# Altium footprint library LCD.PcbLib: 1 footprints
Each footprint in its own frame and in the unit in brackets; x right, y up, seen from the top. Pads: shape width x height; smd on the part's side, far side on the other; paste and mask are expansions set on the pad; w line width, h text height; cw(c..) or ccw(c..) is an arc to the next point about the centre after c.
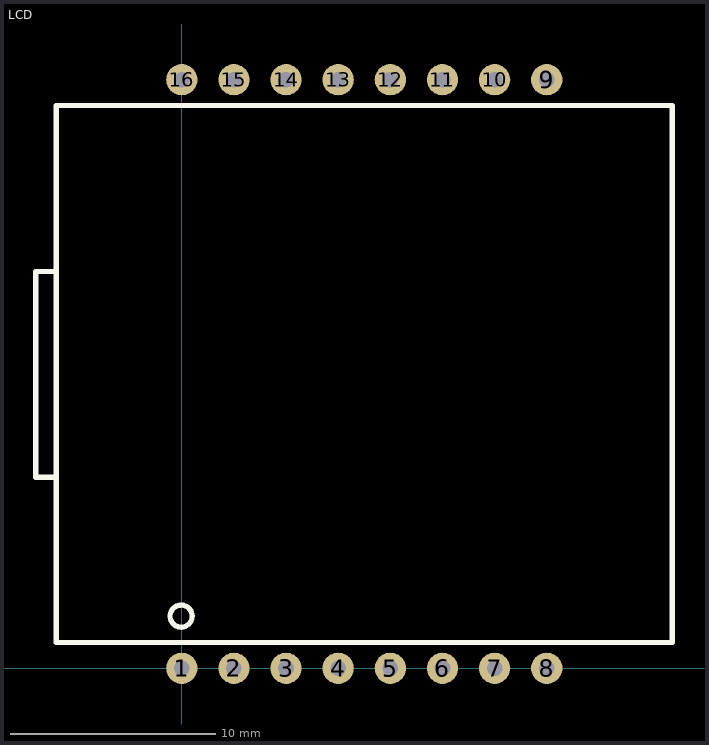
[diagram p0: the footprint, top view; thin cyan lines are the x and y axes]

## LCD [mil] "16 pin through hole LCD"
pads (16):
  round 60 hole 30: 1(0,0) 2(100,0) 3(200,0) 4(300,0) 5(400,0) 6(500,0) 7(600,0) 8(700,0) 9(700,1128.74) 10(600,1128.74) 11(500,1128.74) 12(400,1128.74) 13(300,1128.74) 14(200,1128.74) 15(100,1128.74) 16(0,1128.74)
Top Overlay:
  circle w10: c-1.21,100 r21.21
  lines w10: -279.92,366.22 -240.55,366.22 ; -279.92,367.52 -279.92,761.22 -240.55,761.22 ; -240.55,49.21 -240.55,1079.53 940.55,1079.53 940.55,49.21 -240.55,49.21